# Altium integrated library Linear Technology Power Management LED Driver ICs.IntLib: 490 symbols (part 5 of 48)
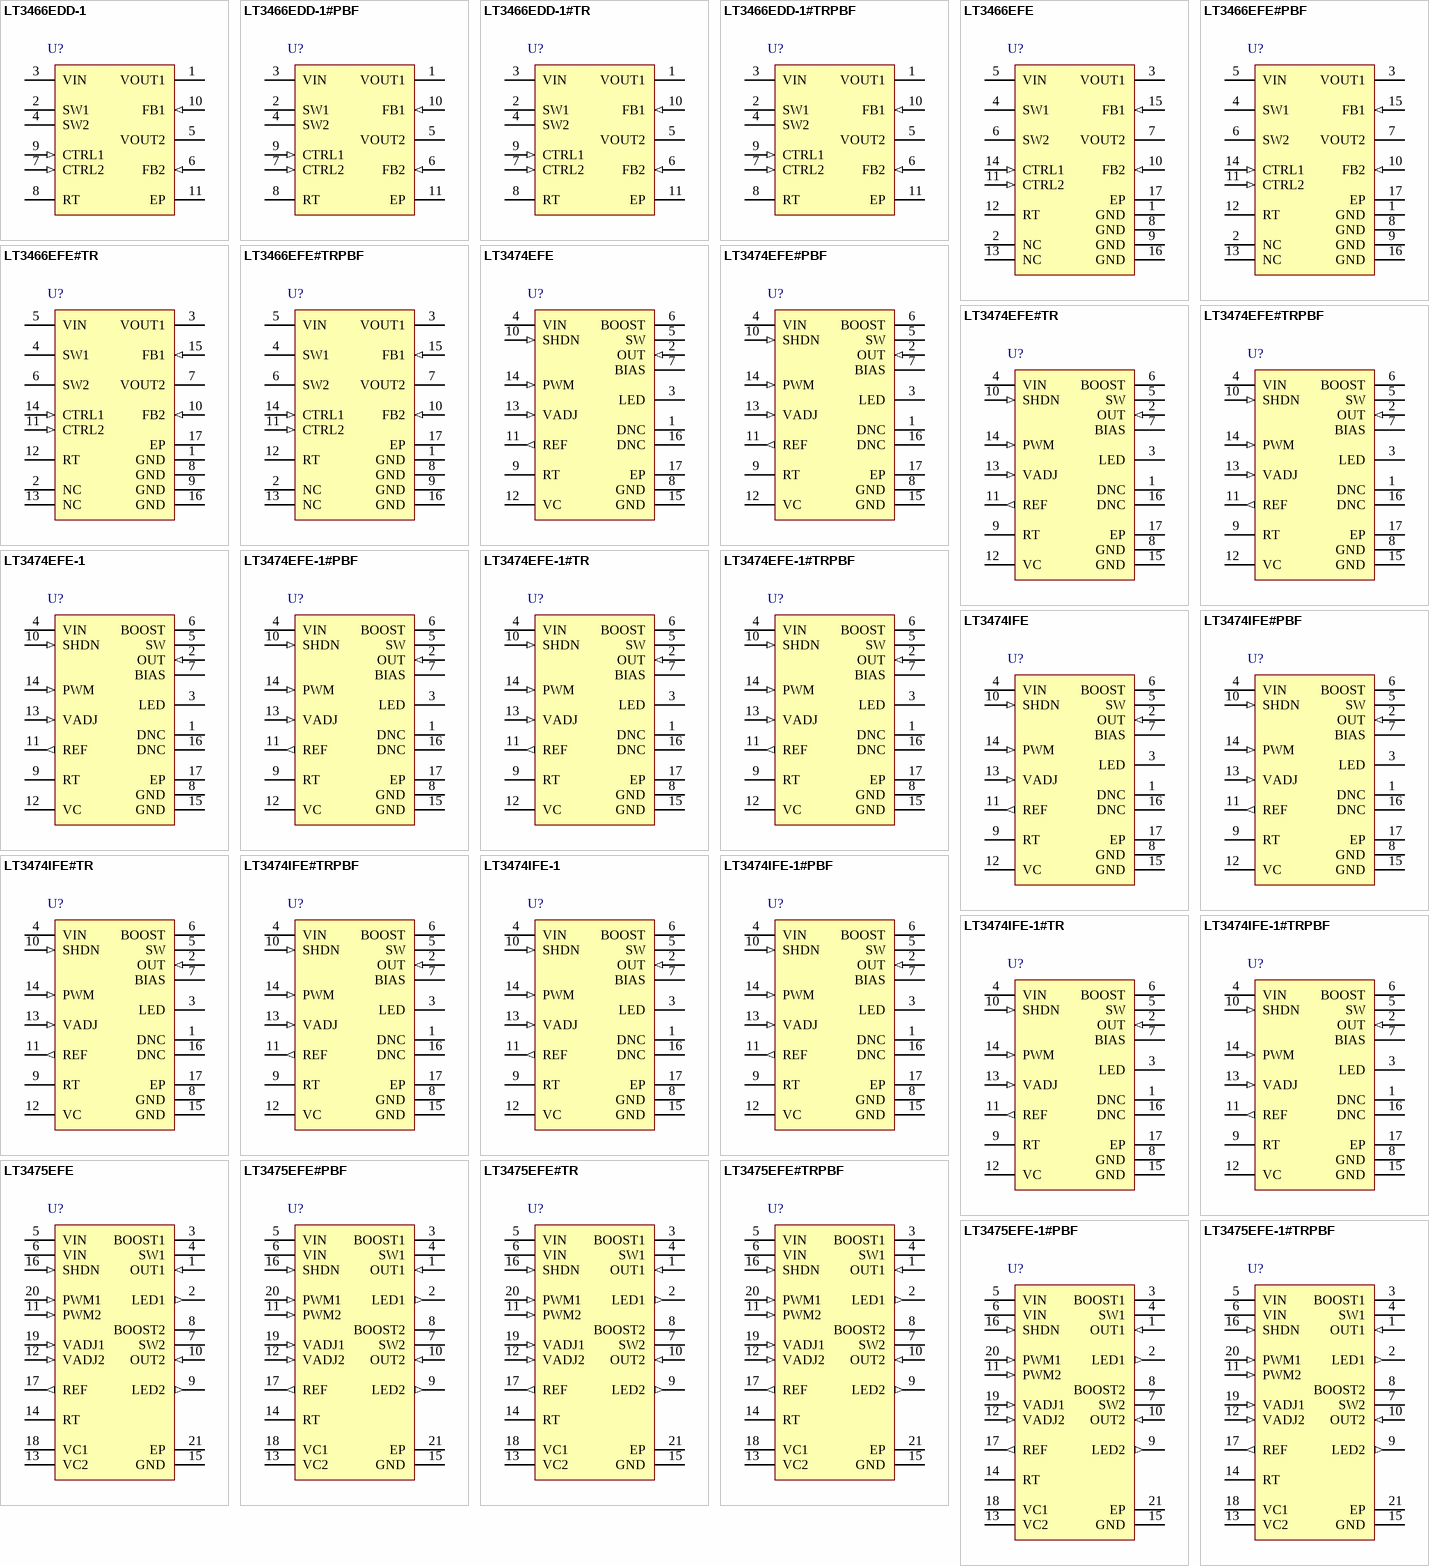
[diagram p24: symbols LT3466EDD-1 to LT3475EFE-1#TRPBF]

## LT3475EFE-1#PBF
designator U?
Dual Step-Down 1.5 A LED Driver, 4 to 36 V Vin, 25 V Vout MAX, 20-pin SOP (FE-20-EPV-CB), -40 to 85 degC, Pb-Free; Manufacturer: Linear Technology; PartNumber: LT3475EFE-1#PBF; Topology: Buck, LED Driver; Vin Min(V): 4; DatasheetVersion: Rev. B; PackageVersion: Rev. I, 05/2011; PackageReference: FE-20; PackageDescription: 20-Pin Plastic TSSOP, Body 6.5 x 4.4 mm, Pitch 0.65 mm; Supplier 1: Digi-Key; Supplier Part Number 1: LT3475EFE-1#PBF-ND; Supplier 2: Farnell; Supplier Part Number 2: 2294842; Supplier 3: Newark; Supplier Part Number 3: 57M8294; RoHS: TRUE; Mounting Technology: Surface Mount; ComponentLink1Description: Manufacturer URL; ComponentLink1URL: http://www.linear.com/; ComponentLink2Description: Datasheet; ComponentLink2URL: http://cds.linear.com/docs/en/datasheet/3475fb.pdf; ComponentLink3Description: Package Specification; ComponentLink3URL: http://cds.linear.com/docs/en/packaging/05081663__J_FE20(CB).pdf
footprint LT-FE-20-EPV-CB_N (SOP, 20-Leads, Body 6.6x4.5mm, Pitch 0.65mm, Thermal Pad 3.86x2.74mm, IPC Medium Density)
footprint LT-FE-20-EPV-CB_L (SOP, 20-Leads, Body 6.6x4.5mm, Pitch 0.65mm, Thermal Pad 3.86x2.74mm, IPC High Density)
footprint LT-FE-20-EPV-CB_M (SOP, 20-Leads, Body 6.6x4.5mm, Pitch 0.65mm, Thermal Pad 3.86x2.74mm, IPC Low Density)
pins: 1 OUT1 (in) "The OUT pin is the input to the current sense resistor. Connect this pin to the inductor and the output capacitor.", 2 LED1 (out) "The LED pin is the output of the current sense resistor. Connect the anode of the LED here.", 3 BOOST1 "The BOOST pin is used to provide a drive voltage, higher than the input voltage, to the internal bipolar NPN power switch.", 4 SW1 "The SW pin is the output of the internal power switch. Connect this pin to the inductor, switching diode and boost capacitor", 5 VIN (power) "The VIN pins supply current to the internal circuitry and to the internal power switches and must be locally bypassed.", 6 VIN (power) "The VIN pins supply current to the internal circuitry and to the internal power switches and must be locally bypassed.", 7 SW2 "The SW pin is the output of the internal power switch. Connect this pin to the inductor, switching diode and boost capacitor", 8 BOOST2 "The BOOST pin is used to provide a drive voltage, higher than the input voltage, to the internal bipolar NPN power switch.", 9 LED2 (out) "The LED pin is the output of the current sense resistor. Connect the anode of the LED here.", 10 OUT2 (in) "The OUT pin is the input to the current sense resistor. Connect this pin to the inductor and the output capacitor.", 11 PWM2 (in) "The PWM pin controls the connection of the VC pin to the internal circuitry. When the PWM pin is low, the VC pin is disconnected from the internal circuitry and draws minimal current. If the PWM feature is unused, leave this (See Datasheet)", 12 VADJ2 (in) "The VADJ pin is the input to the internal voltage-to-current amplifier. Connect the VADJ pin to the REF pin for a 1.5A output current.", 13 VC2 "The VC pin is the output of the internal error amp. The voltage on this pin controls the peak switch current. Use this pin to compensate the control loop.", 14 RT "The RT pin is used to set the internal oscillator frequency. Tie a 24.3k resistor from RT to GND for a 600kHz switching frequency.", 15 GND (power) "Ground. Tie the GND pin and the exposed pad directly to the ground plane.", 16 SHDN (in) "The SHDN pin is used to shut down the switching regulator and the internal bias circuits. The 2.6V switching threshold can function as an accurate undervoltage lockout. Pull below 0.3V to shut down the LT3475/LT3475-1. Pull (See Datasheet)", 17 REF (out) "The REF pin is the buffered output of the internal reference. Either tie the REF pin to the VADJ pin for a 1.5A output current, or use a resistor divider to generate a lower voltage at the VADJ pin. Leave this pin (See Datasheet)", 18 VC1 "The VC pin is the output of the internal error amp. The voltage on this pin controls the peak switch current. Use this pin to compensate the control loop.", 19 VADJ1 (in) "The VADJ pin is the input to the internal voltage-to-current amplifier. Connect the VADJ pin to the REF pin for a 1.5A output current.", 20 PWM1 (in) "The PWM pin controls the connection of the VC pin to the internal circuitry. When the PWM pin is low, the VC pin is disconnected from the internal circuitry and draws minimal current. If the PWM feature is unused, leave this (See Datasheet)", 21 EP (power) "Ground. Tie the GND pin and the exposed pad directly to the ground plane. The exposed pad metal of the package provides both electrical contact to ground and good thermal contact to the printed circuit board. The exposed pad (See Datasheet)"

## LT3475EFE-1#TRPBF
designator U?
Dual Step-Down 1.5 A LED Driver, 4 to 36 V Vin, 25 V Vout MAX, 20-pin SOP (FE-20-EPV-CB), -40 to 85 degC, Pb-Free, Tape and Reel; Manufacturer: Linear Technology; PartNumber: LT3475EFE-1#TRPBF; Topology: Buck, LED Driver; Vin Min(V): 4; DatasheetVersion: Rev. B; PackageVersion: Rev. I, 05/2011; PackageReference: FE-20; PackageDescription: 20-Pin Plastic TSSOP, Body 6.5 x 4.4 mm, Pitch 0.65 mm; Supplier 1: Digi-Key; Supplier Part Number 1: LT3475EFE-1#TRPBF-ND; Packing: Tape and Reel; RoHS: TRUE; Mounting Technology: Surface Mount; ComponentLink1Description: Manufacturer URL; ComponentLink1URL: http://www.linear.com/; ComponentLink2Description: Datasheet; ComponentLink2URL: http://cds.linear.com/docs/en/datasheet/3475fb.pdf; ComponentLink3Description: Package Specification; ComponentLink3URL: http://cds.linear.com/docs/en/packaging/05081663__J_FE20(CB).pdf
footprint LT-FE-20-EPV-CB_N (SOP, 20-Leads, Body 6.6x4.5mm, Pitch 0.65mm, Thermal Pad 3.86x2.74mm, IPC Medium Density)
footprint LT-FE-20-EPV-CB_L (SOP, 20-Leads, Body 6.6x4.5mm, Pitch 0.65mm, Thermal Pad 3.86x2.74mm, IPC High Density)
footprint LT-FE-20-EPV-CB_M (SOP, 20-Leads, Body 6.6x4.5mm, Pitch 0.65mm, Thermal Pad 3.86x2.74mm, IPC Low Density)
pins: 1 OUT1 (in) "The OUT pin is the input to the current sense resistor. Connect this pin to the inductor and the output capacitor.", 2 LED1 (out) "The LED pin is the output of the current sense resistor. Connect the anode of the LED here.", 3 BOOST1 "The BOOST pin is used to provide a drive voltage, higher than the input voltage, to the internal bipolar NPN power switch.", 4 SW1 "The SW pin is the output of the internal power switch. Connect this pin to the inductor, switching diode and boost capacitor", 5 VIN (power) "The VIN pins supply current to the internal circuitry and to the internal power switches and must be locally bypassed.", 6 VIN (power) "The VIN pins supply current to the internal circuitry and to the internal power switches and must be locally bypassed.", 7 SW2 "The SW pin is the output of the internal power switch. Connect this pin to the inductor, switching diode and boost capacitor", 8 BOOST2 "The BOOST pin is used to provide a drive voltage, higher than the input voltage, to the internal bipolar NPN power switch.", 9 LED2 (out) "The LED pin is the output of the current sense resistor. Connect the anode of the LED here.", 10 OUT2 (in) "The OUT pin is the input to the current sense resistor. Connect this pin to the inductor and the output capacitor.", 11 PWM2 (in) "The PWM pin controls the connection of the VC pin to the internal circuitry. When the PWM pin is low, the VC pin is disconnected from the internal circuitry and draws minimal current. If the PWM feature is unused, leave this (See Datasheet)", 12 VADJ2 (in) "The VADJ pin is the input to the internal voltage-to-current amplifier. Connect the VADJ pin to the REF pin for a 1.5A output current.", 13 VC2 "The VC pin is the output of the internal error amp. The voltage on this pin controls the peak switch current. Use this pin to compensate the control loop.", 14 RT "The RT pin is used to set the internal oscillator frequency. Tie a 24.3k resistor from RT to GND for a 600kHz switching frequency.", 15 GND (power) "Ground. Tie the GND pin and the exposed pad directly to the ground plane.", 16 SHDN (in) "The SHDN pin is used to shut down the switching regulator and the internal bias circuits. The 2.6V switching threshold can function as an accurate undervoltage lockout. Pull below 0.3V to shut down the LT3475/LT3475-1. Pull (See Datasheet)", 17 REF (out) "The REF pin is the buffered output of the internal reference. Either tie the REF pin to the VADJ pin for a 1.5A output current, or use a resistor divider to generate a lower voltage at the VADJ pin. Leave this pin (See Datasheet)", 18 VC1 "The VC pin is the output of the internal error amp. The voltage on this pin controls the peak switch current. Use this pin to compensate the control loop.", 19 VADJ1 (in) "The VADJ pin is the input to the internal voltage-to-current amplifier. Connect the VADJ pin to the REF pin for a 1.5A output current.", 20 PWM1 (in) "The PWM pin controls the connection of the VC pin to the internal circuitry. When the PWM pin is low, the VC pin is disconnected from the internal circuitry and draws minimal current. If the PWM feature is unused, leave this (See Datasheet)", 21 EP (power) "Ground. Tie the GND pin and the exposed pad directly to the ground plane. The exposed pad metal of the package provides both electrical contact to ground and good thermal contact to the printed circuit board. The exposed pad (See Datasheet)"

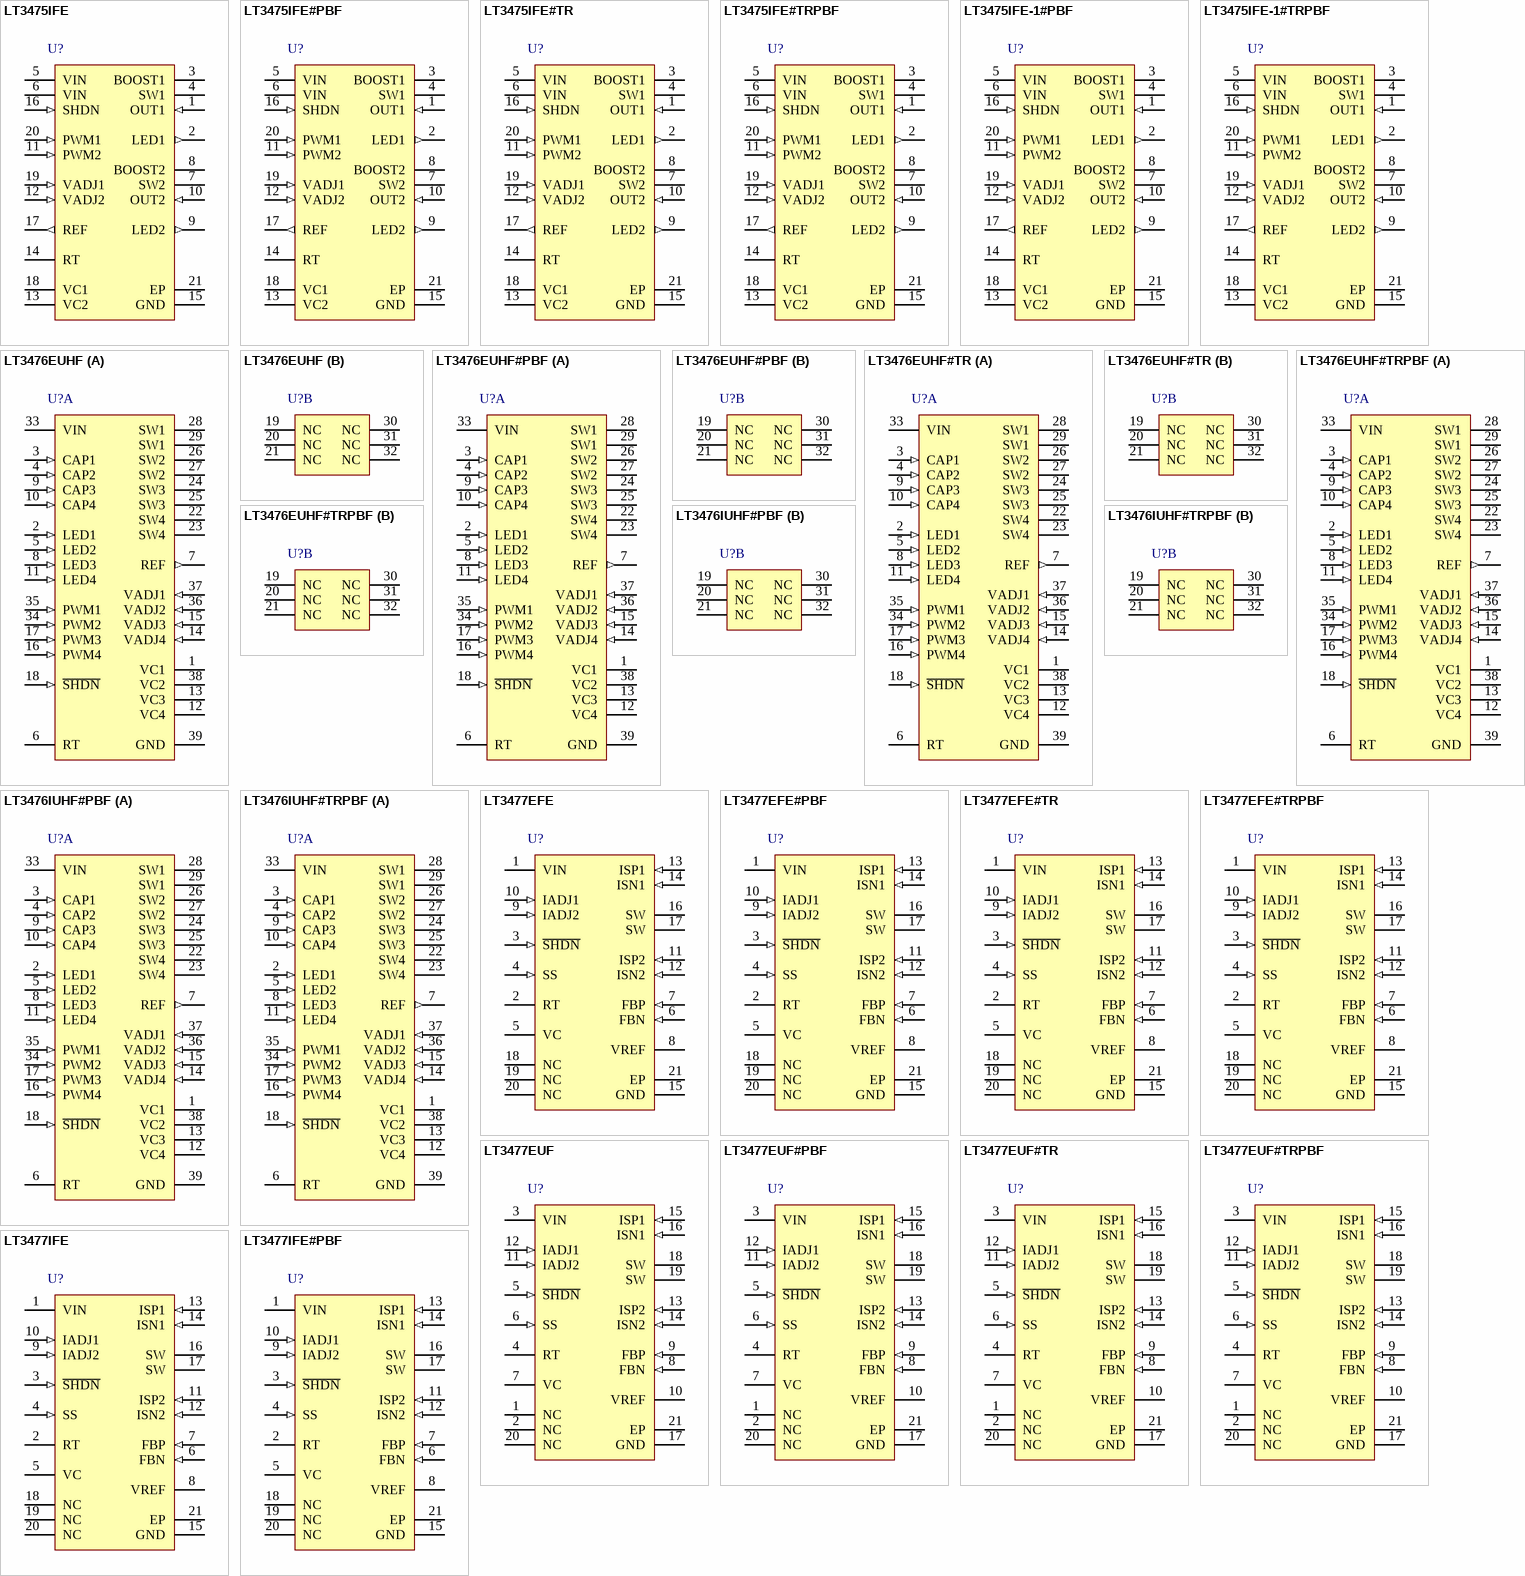
[diagram p2: symbols LT3475IFE to LT3477IFE#PBF]

## LT3475IFE
designator U?
Dual Step-Down 1.5 A LED Driver, 4 to 36 V Vin, 15 V Vout MAX, 20-pin SOP (FE-20-EPV-CB), -40 to 125 degC; Manufacturer: Linear Technology; PartNumber: LT3475IFE; Topology: Buck, LED Driver; Vin Min(V): 4; DatasheetVersion: Rev. B; PackageVersion: Rev. I, 05/2011; PackageReference: FE-20; PackageDescription: 20-Pin Plastic TSSOP, Body 6.5 x 4.4 mm, Pitch 0.65 mm; RoHS: FALSE; Mounting Technology: Surface Mount; ComponentLink1Description: Manufacturer URL; ComponentLink1URL: http://www.linear.com/; ComponentLink2Description: Datasheet; ComponentLink2URL: http://cds.linear.com/docs/en/datasheet/3475fb.pdf; ComponentLink3Description: Package Specification; ComponentLink3URL: http://cds.linear.com/docs/en/packaging/05081663__J_FE20(CB).pdf
footprint LT-FE-20-EPV-CB_N (SOP, 20-Leads, Body 6.6x4.5mm, Pitch 0.65mm, Thermal Pad 3.86x2.74mm, IPC Medium Density)
footprint LT-FE-20-EPV-CB_L (SOP, 20-Leads, Body 6.6x4.5mm, Pitch 0.65mm, Thermal Pad 3.86x2.74mm, IPC High Density)
footprint LT-FE-20-EPV-CB_M (SOP, 20-Leads, Body 6.6x4.5mm, Pitch 0.65mm, Thermal Pad 3.86x2.74mm, IPC Low Density)
pins: 1 OUT1 (in) "The OUT pin is the input to the current sense resistor. Connect this pin to the inductor and the output capacitor.", 2 LED1 (out) "The LED pin is the output of the current sense resistor. Connect the anode of the LED here.", 3 BOOST1 "The BOOST pin is used to provide a drive voltage, higher than the input voltage, to the internal bipolar NPN power switch.", 4 SW1 "The SW pin is the output of the internal power switch. Connect this pin to the inductor, switching diode and boost capacitor", 5 VIN (power) "The VIN pins supply current to the internal circuitry and to the internal power switches and must be locally bypassed.", 6 VIN (power) "The VIN pins supply current to the internal circuitry and to the internal power switches and must be locally bypassed.", 7 SW2 "The SW pin is the output of the internal power switch. Connect this pin to the inductor, switching diode and boost capacitor", 8 BOOST2 "The BOOST pin is used to provide a drive voltage, higher than the input voltage, to the internal bipolar NPN power switch.", 9 LED2 (out) "The LED pin is the output of the current sense resistor. Connect the anode of the LED here.", 10 OUT2 (in) "The OUT pin is the input to the current sense resistor. Connect this pin to the inductor and the output capacitor.", 11 PWM2 (in) "The PWM pin controls the connection of the VC pin to the internal circuitry. When the PWM pin is low, the VC pin is disconnected from the internal circuitry and draws minimal current. If the PWM feature is unused, leave this (See Datasheet)", 12 VADJ2 (in) "The VADJ pin is the input to the internal voltage-to-current amplifier. Connect the VADJ pin to the REF pin for a 1.5A output current.", 13 VC2 "The VC pin is the output of the internal error amp. The voltage on this pin controls the peak switch current. Use this pin to compensate the control loop.", 14 RT "The RT pin is used to set the internal oscillator frequency. Tie a 24.3k resistor from RT to GND for a 600kHz switching frequency.", 15 GND (power) "Ground. Tie the GND pin and the exposed pad directly to the ground plane.", 16 SHDN (in) "The SHDN pin is used to shut down the switching regulator and the internal bias circuits. The 2.6V switching threshold can function as an accurate undervoltage lockout. Pull below 0.3V to shut down the LT3475/LT3475-1. Pull (See Datasheet)", 17 REF (out) "The REF pin is the buffered output of the internal reference. Either tie the REF pin to the VADJ pin for a 1.5A output current, or use a resistor divider to generate a lower voltage at the VADJ pin. Leave this pin (See Datasheet)", 18 VC1 "The VC pin is the output of the internal error amp. The voltage on this pin controls the peak switch current. Use this pin to compensate the control loop.", 19 VADJ1 (in) "The VADJ pin is the input to the internal voltage-to-current amplifier. Connect the VADJ pin to the REF pin for a 1.5A output current.", 20 PWM1 (in) "The PWM pin controls the connection of the VC pin to the internal circuitry. When the PWM pin is low, the VC pin is disconnected from the internal circuitry and draws minimal current. If the PWM feature is unused, leave this (See Datasheet)", 21 EP (power) "Ground. Tie the GND pin and the exposed pad directly to the ground plane. The exposed pad metal of the package provides both electrical contact to ground and good thermal contact to the printed circuit board. The exposed pad (See Datasheet)"

## LT3475IFE#PBF
designator U?
Dual Step-Down 1.5 A LED Driver, 4 to 36 V Vin, 15 V Vout MAX, 20-pin SOP (FE-20-EPV-CB), -40 to 125 degC, Pb-Free; Manufacturer: Linear Technology; PartNumber: LT3475IFE#PBF; Topology: Buck, LED Driver; Vin Min(V): 4; DatasheetVersion: Rev. B; PackageVersion: Rev. I, 05/2011; PackageReference: FE-20; PackageDescription: 20-Pin Plastic TSSOP, Body 6.5 x 4.4 mm, Pitch 0.65 mm; Supplier 1: Digi-Key; Supplier Part Number 1: LT3475IFE#PBF-ND; RoHS: TRUE; Mounting Technology: Surface Mount; ComponentLink1Description: Manufacturer URL; ComponentLink1URL: http://www.linear.com/; ComponentLink2Description: Datasheet; ComponentLink2URL: http://cds.linear.com/docs/en/datasheet/3475fb.pdf; ComponentLink3Description: Package Specification; ComponentLink3URL: http://cds.linear.com/docs/en/packaging/05081663__J_FE20(CB).pdf
footprint LT-FE-20-EPV-CB_N (SOP, 20-Leads, Body 6.6x4.5mm, Pitch 0.65mm, Thermal Pad 3.86x2.74mm, IPC Medium Density)
footprint LT-FE-20-EPV-CB_L (SOP, 20-Leads, Body 6.6x4.5mm, Pitch 0.65mm, Thermal Pad 3.86x2.74mm, IPC High Density)
footprint LT-FE-20-EPV-CB_M (SOP, 20-Leads, Body 6.6x4.5mm, Pitch 0.65mm, Thermal Pad 3.86x2.74mm, IPC Low Density)
pins: 1 OUT1 (in) "The OUT pin is the input to the current sense resistor. Connect this pin to the inductor and the output capacitor.", 2 LED1 (out) "The LED pin is the output of the current sense resistor. Connect the anode of the LED here.", 3 BOOST1 "The BOOST pin is used to provide a drive voltage, higher than the input voltage, to the internal bipolar NPN power switch.", 4 SW1 "The SW pin is the output of the internal power switch. Connect this pin to the inductor, switching diode and boost capacitor", 5 VIN (power) "The VIN pins supply current to the internal circuitry and to the internal power switches and must be locally bypassed.", 6 VIN (power) "The VIN pins supply current to the internal circuitry and to the internal power switches and must be locally bypassed.", 7 SW2 "The SW pin is the output of the internal power switch. Connect this pin to the inductor, switching diode and boost capacitor", 8 BOOST2 "The BOOST pin is used to provide a drive voltage, higher than the input voltage, to the internal bipolar NPN power switch.", 9 LED2 (out) "The LED pin is the output of the current sense resistor. Connect the anode of the LED here.", 10 OUT2 (in) "The OUT pin is the input to the current sense resistor. Connect this pin to the inductor and the output capacitor.", 11 PWM2 (in) "The PWM pin controls the connection of the VC pin to the internal circuitry. When the PWM pin is low, the VC pin is disconnected from the internal circuitry and draws minimal current. If the PWM feature is unused, leave this (See Datasheet)", 12 VADJ2 (in) "The VADJ pin is the input to the internal voltage-to-current amplifier. Connect the VADJ pin to the REF pin for a 1.5A output current.", 13 VC2 "The VC pin is the output of the internal error amp. The voltage on this pin controls the peak switch current. Use this pin to compensate the control loop.", 14 RT "The RT pin is used to set the internal oscillator frequency. Tie a 24.3k resistor from RT to GND for a 600kHz switching frequency.", 15 GND (power) "Ground. Tie the GND pin and the exposed pad directly to the ground plane.", 16 SHDN (in) "The SHDN pin is used to shut down the switching regulator and the internal bias circuits. The 2.6V switching threshold can function as an accurate undervoltage lockout. Pull below 0.3V to shut down the LT3475/LT3475-1. Pull (See Datasheet)", 17 REF (out) "The REF pin is the buffered output of the internal reference. Either tie the REF pin to the VADJ pin for a 1.5A output current, or use a resistor divider to generate a lower voltage at the VADJ pin. Leave this pin (See Datasheet)", 18 VC1 "The VC pin is the output of the internal error amp. The voltage on this pin controls the peak switch current. Use this pin to compensate the control loop.", 19 VADJ1 (in) "The VADJ pin is the input to the internal voltage-to-current amplifier. Connect the VADJ pin to the REF pin for a 1.5A output current.", 20 PWM1 (in) "The PWM pin controls the connection of the VC pin to the internal circuitry. When the PWM pin is low, the VC pin is disconnected from the internal circuitry and draws minimal current. If the PWM feature is unused, leave this (See Datasheet)", 21 EP (power) "Ground. Tie the GND pin and the exposed pad directly to the ground plane. The exposed pad metal of the package provides both electrical contact to ground and good thermal contact to the printed circuit board. The exposed pad (See Datasheet)"

## LT3475IFE#TR
designator U?
Dual Step-Down 1.5 A LED Driver, 4 to 36 V Vin, 15 V Vout MAX, 20-pin SOP (FE-20-EPV-CB), -40 to 125 degC, Tape and Reel; Manufacturer: Linear Technology; PartNumber: LT3475IFE#TR; Topology: Buck, LED Driver; Vin Min(V): 4; DatasheetVersion: Rev. B; PackageVersion: Rev. I, 05/2011; PackageReference: FE-20; PackageDescription: 20-Pin Plastic TSSOP, Body 6.5 x 4.4 mm, Pitch 0.65 mm; Packing: Tape and Reel; RoHS: FALSE; Mounting Technology: Surface Mount; ComponentLink1Description: Manufacturer URL; ComponentLink1URL: http://www.linear.com/; ComponentLink2Description: Datasheet; ComponentLink2URL: http://cds.linear.com/docs/en/datasheet/3475fb.pdf; ComponentLink3Description: Package Specification; ComponentLink3URL: http://cds.linear.com/docs/en/packaging/05081663__J_FE20(CB).pdf
footprint LT-FE-20-EPV-CB_N (SOP, 20-Leads, Body 6.6x4.5mm, Pitch 0.65mm, Thermal Pad 3.86x2.74mm, IPC Medium Density)
footprint LT-FE-20-EPV-CB_L (SOP, 20-Leads, Body 6.6x4.5mm, Pitch 0.65mm, Thermal Pad 3.86x2.74mm, IPC High Density)
footprint LT-FE-20-EPV-CB_M (SOP, 20-Leads, Body 6.6x4.5mm, Pitch 0.65mm, Thermal Pad 3.86x2.74mm, IPC Low Density)
pins: 1 OUT1 (in) "The OUT pin is the input to the current sense resistor. Connect this pin to the inductor and the output capacitor.", 2 LED1 (out) "The LED pin is the output of the current sense resistor. Connect the anode of the LED here.", 3 BOOST1 "The BOOST pin is used to provide a drive voltage, higher than the input voltage, to the internal bipolar NPN power switch.", 4 SW1 "The SW pin is the output of the internal power switch. Connect this pin to the inductor, switching diode and boost capacitor", 5 VIN (power) "The VIN pins supply current to the internal circuitry and to the internal power switches and must be locally bypassed.", 6 VIN (power) "The VIN pins supply current to the internal circuitry and to the internal power switches and must be locally bypassed.", 7 SW2 "The SW pin is the output of the internal power switch. Connect this pin to the inductor, switching diode and boost capacitor", 8 BOOST2 "The BOOST pin is used to provide a drive voltage, higher than the input voltage, to the internal bipolar NPN power switch.", 9 LED2 (out) "The LED pin is the output of the current sense resistor. Connect the anode of the LED here.", 10 OUT2 (in) "The OUT pin is the input to the current sense resistor. Connect this pin to the inductor and the output capacitor.", 11 PWM2 (in) "The PWM pin controls the connection of the VC pin to the internal circuitry. When the PWM pin is low, the VC pin is disconnected from the internal circuitry and draws minimal current. If the PWM feature is unused, leave this (See Datasheet)", 12 VADJ2 (in) "The VADJ pin is the input to the internal voltage-to-current amplifier. Connect the VADJ pin to the REF pin for a 1.5A output current.", 13 VC2 "The VC pin is the output of the internal error amp. The voltage on this pin controls the peak switch current. Use this pin to compensate the control loop.", 14 RT "The RT pin is used to set the internal oscillator frequency. Tie a 24.3k resistor from RT to GND for a 600kHz switching frequency.", 15 GND (power) "Ground. Tie the GND pin and the exposed pad directly to the ground plane.", 16 SHDN (in) "The SHDN pin is used to shut down the switching regulator and the internal bias circuits. The 2.6V switching threshold can function as an accurate undervoltage lockout. Pull below 0.3V to shut down the LT3475/LT3475-1. Pull (See Datasheet)", 17 REF (out) "The REF pin is the buffered output of the internal reference. Either tie the REF pin to the VADJ pin for a 1.5A output current, or use a resistor divider to generate a lower voltage at the VADJ pin. Leave this pin (See Datasheet)", 18 VC1 "The VC pin is the output of the internal error amp. The voltage on this pin controls the peak switch current. Use this pin to compensate the control loop.", 19 VADJ1 (in) "The VADJ pin is the input to the internal voltage-to-current amplifier. Connect the VADJ pin to the REF pin for a 1.5A output current.", 20 PWM1 (in) "The PWM pin controls the connection of the VC pin to the internal circuitry. When the PWM pin is low, the VC pin is disconnected from the internal circuitry and draws minimal current. If the PWM feature is unused, leave this (See Datasheet)", 21 EP (power) "Ground. Tie the GND pin and the exposed pad directly to the ground plane. The exposed pad metal of the package provides both electrical contact to ground and good thermal contact to the printed circuit board. The exposed pad (See Datasheet)"

## LT3475IFE#TRPBF
designator U?
Dual Step-Down 1.5 A LED Driver, 4 to 36 V Vin, 15 V Vout MAX, 20-pin SOP (FE-20-EPV-CB), -40 to 125 degC, Pb-Free, Tape and Reel; Manufacturer: Linear Technology; PartNumber: LT3475IFE#TRPBF; Topology: Buck, LED Driver; Vin Min(V): 4; DatasheetVersion: Rev. B; PackageVersion: Rev. I, 05/2011; PackageReference: FE-20; PackageDescription: 20-Pin Plastic TSSOP, Body 6.5 x 4.4 mm, Pitch 0.65 mm; Supplier 1: Digi-Key; Supplier Part Number 1: LT3475IFE#TRPBF-ND; Packing: Tape and Reel; RoHS: TRUE; Mounting Technology: Surface Mount; ComponentLink1Description: Manufacturer URL; ComponentLink1URL: http://www.linear.com/; ComponentLink2Description: Datasheet; ComponentLink2URL: http://cds.linear.com/docs/en/datasheet/3475fb.pdf; ComponentLink3Description: Package Specification; ComponentLink3URL: http://cds.linear.com/docs/en/packaging/05081663__J_FE20(CB).pdf
footprint LT-FE-20-EPV-CB_N (SOP, 20-Leads, Body 6.6x4.5mm, Pitch 0.65mm, Thermal Pad 3.86x2.74mm, IPC Medium Density)
footprint LT-FE-20-EPV-CB_L (SOP, 20-Leads, Body 6.6x4.5mm, Pitch 0.65mm, Thermal Pad 3.86x2.74mm, IPC High Density)
footprint LT-FE-20-EPV-CB_M (SOP, 20-Leads, Body 6.6x4.5mm, Pitch 0.65mm, Thermal Pad 3.86x2.74mm, IPC Low Density)
pins: 1 OUT1 (in) "The OUT pin is the input to the current sense resistor. Connect this pin to the inductor and the output capacitor.", 2 LED1 (out) "The LED pin is the output of the current sense resistor. Connect the anode of the LED here.", 3 BOOST1 "The BOOST pin is used to provide a drive voltage, higher than the input voltage, to the internal bipolar NPN power switch.", 4 SW1 "The SW pin is the output of the internal power switch. Connect this pin to the inductor, switching diode and boost capacitor", 5 VIN (power) "The VIN pins supply current to the internal circuitry and to the internal power switches and must be locally bypassed.", 6 VIN (power) "The VIN pins supply current to the internal circuitry and to the internal power switches and must be locally bypassed.", 7 SW2 "The SW pin is the output of the internal power switch. Connect this pin to the inductor, switching diode and boost capacitor", 8 BOOST2 "The BOOST pin is used to provide a drive voltage, higher than the input voltage, to the internal bipolar NPN power switch.", 9 LED2 (out) "The LED pin is the output of the current sense resistor. Connect the anode of the LED here.", 10 OUT2 (in) "The OUT pin is the input to the current sense resistor. Connect this pin to the inductor and the output capacitor.", 11 PWM2 (in) "The PWM pin controls the connection of the VC pin to the internal circuitry. When the PWM pin is low, the VC pin is disconnected from the internal circuitry and draws minimal current. If the PWM feature is unused, leave this (See Datasheet)", 12 VADJ2 (in) "The VADJ pin is the input to the internal voltage-to-current amplifier. Connect the VADJ pin to the REF pin for a 1.5A output current.", 13 VC2 "The VC pin is the output of the internal error amp. The voltage on this pin controls the peak switch current. Use this pin to compensate the control loop.", 14 RT "The RT pin is used to set the internal oscillator frequency. Tie a 24.3k resistor from RT to GND for a 600kHz switching frequency.", 15 GND (power) "Ground. Tie the GND pin and the exposed pad directly to the ground plane.", 16 SHDN (in) "The SHDN pin is used to shut down the switching regulator and the internal bias circuits. The 2.6V switching threshold can function as an accurate undervoltage lockout. Pull below 0.3V to shut down the LT3475/LT3475-1. Pull (See Datasheet)", 17 REF (out) "The REF pin is the buffered output of the internal reference. Either tie the REF pin to the VADJ pin for a 1.5A output current, or use a resistor divider to generate a lower voltage at the VADJ pin. Leave this pin (See Datasheet)", 18 VC1 "The VC pin is the output of the internal error amp. The voltage on this pin controls the peak switch current. Use this pin to compensate the control loop.", 19 VADJ1 (in) "The VADJ pin is the input to the internal voltage-to-current amplifier. Connect the VADJ pin to the REF pin for a 1.5A output current.", 20 PWM1 (in) "The PWM pin controls the connection of the VC pin to the internal circuitry. When the PWM pin is low, the VC pin is disconnected from the internal circuitry and draws minimal current. If the PWM feature is unused, leave this (See Datasheet)", 21 EP (power) "Ground. Tie the GND pin and the exposed pad directly to the ground plane. The exposed pad metal of the package provides both electrical contact to ground and good thermal contact to the printed circuit board. The exposed pad (See Datasheet)"

## LT3475IFE-1#PBF
designator U?
Dual Step-Down 1.5 A LED Driver, 4 to 36 V Vin, 25 V Vout MAX, 20-pin SOP (FE-20-EPV-CB), -40 to 125 degC, Pb-Free; Manufacturer: Linear Technology; PartNumber: LT3475IFE-1#PBF; Topology: Buck, LED Driver; Vin Min(V): 4; DatasheetVersion: Rev. B; PackageVersion: Rev. I, 05/2011; PackageReference: FE-20; PackageDescription: 20-Pin Plastic TSSOP, Body 6.5 x 4.4 mm, Pitch 0.65 mm; Supplier 1: Digi-Key; Supplier Part Number 1: LT3475IFE-1#PBF-ND; Supplier 2: Farnell; Supplier Part Number 2: 2294843; Supplier 3: Newark; Supplier Part Number 3: 57M8300; RoHS: TRUE; Mounting Technology: Surface Mount; ComponentLink1Description: Manufacturer URL; ComponentLink1URL: http://www.linear.com/; ComponentLink2Description: Datasheet; ComponentLink2URL: http://cds.linear.com/docs/en/datasheet/3475fb.pdf; ComponentLink3Description: Package Specification; ComponentLink3URL: http://cds.linear.com/docs/en/packaging/05081663__J_FE20(CB).pdf
footprint LT-FE-20-EPV-CB_N (SOP, 20-Leads, Body 6.6x4.5mm, Pitch 0.65mm, Thermal Pad 3.86x2.74mm, IPC Medium Density)
footprint LT-FE-20-EPV-CB_L (SOP, 20-Leads, Body 6.6x4.5mm, Pitch 0.65mm, Thermal Pad 3.86x2.74mm, IPC High Density)
footprint LT-FE-20-EPV-CB_M (SOP, 20-Leads, Body 6.6x4.5mm, Pitch 0.65mm, Thermal Pad 3.86x2.74mm, IPC Low Density)
pins: 1 OUT1 (in) "The OUT pin is the input to the current sense resistor. Connect this pin to the inductor and the output capacitor.", 2 LED1 (out) "The LED pin is the output of the current sense resistor. Connect the anode of the LED here.", 3 BOOST1 "The BOOST pin is used to provide a drive voltage, higher than the input voltage, to the internal bipolar NPN power switch.", 4 SW1 "The SW pin is the output of the internal power switch. Connect this pin to the inductor, switching diode and boost capacitor", 5 VIN (power) "The VIN pins supply current to the internal circuitry and to the internal power switches and must be locally bypassed.", 6 VIN (power) "The VIN pins supply current to the internal circuitry and to the internal power switches and must be locally bypassed.", 7 SW2 "The SW pin is the output of the internal power switch. Connect this pin to the inductor, switching diode and boost capacitor", 8 BOOST2 "The BOOST pin is used to provide a drive voltage, higher than the input voltage, to the internal bipolar NPN power switch.", 9 LED2 (out) "The LED pin is the output of the current sense resistor. Connect the anode of the LED here.", 10 OUT2 (in) "The OUT pin is the input to the current sense resistor. Connect this pin to the inductor and the output capacitor.", 11 PWM2 (in) "The PWM pin controls the connection of the VC pin to the internal circuitry. When the PWM pin is low, the VC pin is disconnected from the internal circuitry and draws minimal current. If the PWM feature is unused, leave this (See Datasheet)", 12 VADJ2 (in) "The VADJ pin is the input to the internal voltage-to-current amplifier. Connect the VADJ pin to the REF pin for a 1.5A output current.", 13 VC2 "The VC pin is the output of the internal error amp. The voltage on this pin controls the peak switch current. Use this pin to compensate the control loop.", 14 RT "The RT pin is used to set the internal oscillator frequency. Tie a 24.3k resistor from RT to GND for a 600kHz switching frequency.", 15 GND (power) "Ground. Tie the GND pin and the exposed pad directly to the ground plane.", 16 SHDN (in) "The SHDN pin is used to shut down the switching regulator and the internal bias circuits. The 2.6V switching threshold can function as an accurate undervoltage lockout. Pull below 0.3V to shut down the LT3475/LT3475-1. Pull (See Datasheet)", 17 REF (out) "The REF pin is the buffered output of the internal reference. Either tie the REF pin to the VADJ pin for a 1.5A output current, or use a resistor divider to generate a lower voltage at the VADJ pin. Leave this pin (See Datasheet)", 18 VC1 "The VC pin is the output of the internal error amp. The voltage on this pin controls the peak switch current. Use this pin to compensate the control loop.", 19 VADJ1 (in) "The VADJ pin is the input to the internal voltage-to-current amplifier. Connect the VADJ pin to the REF pin for a 1.5A output current.", 20 PWM1 (in) "The PWM pin controls the connection of the VC pin to the internal circuitry. When the PWM pin is low, the VC pin is disconnected from the internal circuitry and draws minimal current. If the PWM feature is unused, leave this (See Datasheet)", 21 EP (power) "Ground. Tie the GND pin and the exposed pad directly to the ground plane. The exposed pad metal of the package provides both electrical contact to ground and good thermal contact to the printed circuit board. The exposed pad (See Datasheet)"

## LT3475IFE-1#TRPBF
designator U?
Dual Step-Down 1.5 A LED Driver, 4 to 36 V Vin, 25 V Vout MAX, 20-pin SOP (FE-20-EPV-CB), -40 to 125 degC, Pb-Free, Tape and Reel; Manufacturer: Linear Technology; PartNumber: LT3475IFE-1#TRPBF; Topology: Buck, LED Driver; Vin Min(V): 4; DatasheetVersion: Rev. B; PackageVersion: Rev. I, 05/2011; PackageReference: FE-20; PackageDescription: 20-Pin Plastic TSSOP, Body 6.5 x 4.4 mm, Pitch 0.65 mm; Supplier 1: Digi-Key; Supplier Part Number 1: LT3475IFE-1#TRPBF-ND; Packing: Tape and Reel; RoHS: TRUE; Mounting Technology: Surface Mount; ComponentLink1Description: Manufacturer URL; ComponentLink1URL: http://www.linear.com/; ComponentLink2Description: Datasheet; ComponentLink2URL: http://cds.linear.com/docs/en/datasheet/3475fb.pdf; ComponentLink3Description: Package Specification; ComponentLink3URL: http://cds.linear.com/docs/en/packaging/05081663__J_FE20(CB).pdf
footprint LT-FE-20-EPV-CB_N (SOP, 20-Leads, Body 6.6x4.5mm, Pitch 0.65mm, Thermal Pad 3.86x2.74mm, IPC Medium Density)
footprint LT-FE-20-EPV-CB_L (SOP, 20-Leads, Body 6.6x4.5mm, Pitch 0.65mm, Thermal Pad 3.86x2.74mm, IPC High Density)
footprint LT-FE-20-EPV-CB_M (SOP, 20-Leads, Body 6.6x4.5mm, Pitch 0.65mm, Thermal Pad 3.86x2.74mm, IPC Low Density)
pins: 1 OUT1 (in) "The OUT pin is the input to the current sense resistor. Connect this pin to the inductor and the output capacitor.", 2 LED1 (out) "The LED pin is the output of the current sense resistor. Connect the anode of the LED here.", 3 BOOST1 "The BOOST pin is used to provide a drive voltage, higher than the input voltage, to the internal bipolar NPN power switch.", 4 SW1 "The SW pin is the output of the internal power switch. Connect this pin to the inductor, switching diode and boost capacitor", 5 VIN (power) "The VIN pins supply current to the internal circuitry and to the internal power switches and must be locally bypassed.", 6 VIN (power) "The VIN pins supply current to the internal circuitry and to the internal power switches and must be locally bypassed.", 7 SW2 "The SW pin is the output of the internal power switch. Connect this pin to the inductor, switching diode and boost capacitor", 8 BOOST2 "The BOOST pin is used to provide a drive voltage, higher than the input voltage, to the internal bipolar NPN power switch.", 9 LED2 (out) "The LED pin is the output of the current sense resistor. Connect the anode of the LED here.", 10 OUT2 (in) "The OUT pin is the input to the current sense resistor. Connect this pin to the inductor and the output capacitor.", 11 PWM2 (in) "The PWM pin controls the connection of the VC pin to the internal circuitry. When the PWM pin is low, the VC pin is disconnected from the internal circuitry and draws minimal current. If the PWM feature is unused, leave this (See Datasheet)", 12 VADJ2 (in) "The VADJ pin is the input to the internal voltage-to-current amplifier. Connect the VADJ pin to the REF pin for a 1.5A output current.", 13 VC2 "The VC pin is the output of the internal error amp. The voltage on this pin controls the peak switch current. Use this pin to compensate the control loop.", 14 RT "The RT pin is used to set the internal oscillator frequency. Tie a 24.3k resistor from RT to GND for a 600kHz switching frequency.", 15 GND (power) "Ground. Tie the GND pin and the exposed pad directly to the ground plane.", 16 SHDN (in) "The SHDN pin is used to shut down the switching regulator and the internal bias circuits. The 2.6V switching threshold can function as an accurate undervoltage lockout. Pull below 0.3V to shut down the LT3475/LT3475-1. Pull (See Datasheet)", 17 REF (out) "The REF pin is the buffered output of the internal reference. Either tie the REF pin to the VADJ pin for a 1.5A output current, or use a resistor divider to generate a lower voltage at the VADJ pin. Leave this pin (See Datasheet)", 18 VC1 "The VC pin is the output of the internal error amp. The voltage on this pin controls the peak switch current. Use this pin to compensate the control loop.", 19 VADJ1 (in) "The VADJ pin is the input to the internal voltage-to-current amplifier. Connect the VADJ pin to the REF pin for a 1.5A output current.", 20 PWM1 (in) "The PWM pin controls the connection of the VC pin to the internal circuitry. When the PWM pin is low, the VC pin is disconnected from the internal circuitry and draws minimal current. If the PWM feature is unused, leave this (See Datasheet)", 21 EP (power) "Ground. Tie the GND pin and the exposed pad directly to the ground plane. The exposed pad metal of the package provides both electrical contact to ground and good thermal contact to the printed circuit board. The exposed pad (See Datasheet)"

## LT3476EUHF
designator U?
High Current Quad Output LED Driver, 2.8 to 16 V Vin, 36 V Vout MAX, 38-pin QFN (UHF-38), -40 to 85 degC; Manufacturer: Linear Technology; PartNumber: LT3476EUHF; Topology: Boost, Buck-Boost, Buck, LED Driver; Vin Min(V): 2.8; DatasheetVersion: Rev. B; PackageVersion: Rev. C, 06/2010; PackageReference: UHF-38; PackageDescription: 38-Pin Plastic QFN, Body 7 x 5 mm, Pitch 0.5 mm; Supplier 1: Newark; Supplier Part Number 1: 57M8305; RoHS: FALSE; Mounting Technology: Surface Mount; Code_JEDEC: MO-220; ComponentLink1Description: Manufacturer URL; ComponentLink1URL: http://www.linear.com/; ComponentLink2Description: Datasheet; ComponentLink2URL: http://cds.linear.com/docs/en/datasheet/3476fb.pdf; ComponentLink3Description: Package Specification; ComponentLink3URL: http://cds.linear.com/docs/en/packaging/QFN_38_05-08-1701.pdf
footprint LT-UHF-38_N (QFN, 38-Leads, Body 7.1x5.1mm, Pitch 0.5mm, Thermal Pad 3.15x5.15mm, IPC Medium Density)
footprint LT-UHF-38_L (QFN, 38-Leads, Body 7.1x5.1mm, Pitch 0.5mm, Thermal Pad 3.15x5.15mm, IPC High Density)
footprint LT-UHF-38_M (QFN, 38-Leads, Body 7.1x5.1mm, Pitch 0.5mm, Thermal Pad 3.15x5.15mm, IPC Low Density)
part A pins: 1 VC1 "Error Amplifier Compensation Pin. When PWM is low, VC pin floats external compensation capacitor to save state for next cycle.", 2 LED1 (in) "Non-Inverting Input of Current Sense Error Amplifier. Connect directly to LED current sense resistor terminal. Switcher will regulate this node to a voltage of 0.1• VADJ below the CAP node. Also connected to CAP nod(See Datasheet)", 3 CAP1 (in) "Inverting input of current sense error amplifier. Connect directly to other terminal of LED current sense resistor. Also connected to output filter capacitor and cathode of external Schottky rectifier. CAP greater than the (See Datasheet)", 4 CAP2 (in) "Inverting input of current sense error amplifier. Connect directly to other terminal of LED current sense resistor. Also connected to output filter capacitor and cathode of external Schottky rectifier. CAP greater than the (See Datasheet)", 5 LED2 (in) "Non-Inverting Input of Current Sense Error Amplifier. Connect directly to LED current sense resistor terminal. Switcher will regulate this node to a voltage of 0.1• VADJ below the CAP node. Also connected to CAP nod(See Datasheet)", 6 RT "Oscillator Programming Pin. Place resistor connected to GND to program oscillator frequency.", 7 REF (out) "Reference Output Pin. Connect to VADJ pin to get full-scale LED current. Connect to resistor dividers to program VADJ pins to values lower than 1.05 V. Bypass to local GND with 0.1 uF capacitor.", 8 LED3 (in) "Non-Inverting Input of Current Sense Error Amplifier. Connect directly to LED current sense resistor terminal. Switcher will regulate this node to a voltage of 0.1• VADJ below the CAP node. Also connected to CAP nod(See Datasheet)", 9 CAP3 (in) "Inverting input of current sense error amplifier. Connect directly to other terminal of LED current sense resistor. Also connected to output filter capacitor and cathode of external Schottky rectifier. CAP greater than the (See Datasheet)", 10 CAP4 (in) "Inverting input of current sense error amplifier. Connect directly to other terminal of LED current sense resistor. Also connected to output filter capacitor and cathode of external Schottky rectifier. CAP greater than the (See Datasheet)", 11 LED4 (in) "Non-Inverting Input of Current Sense Error Amplifier. Connect directly to LED current sense resistor terminal. Switcher will regulate this node to a voltage of 0.1• VADJ below the CAP node. Also connected to CAP nod(See Datasheet)", 12 VC4 "Error Amplifier Compensation Pin. When PWM is low, VC pin floats external compensation capacitor to save state for next cycle.", 13 VC3 "Error Amplifier Compensation Pin. When PWM is low, VC pin floats external compensation capacitor to save state for next cycle.", 14 VADJ4 (in) "LED Current Adjustment Pin. Sets voltage across external sense resistor between CAPn and LEDn. Connect directly to REF for full-scale threshold of 105 mV, or use signal vales between GND and REF to modulate LED current. VADJ (See Datasheet)", 15 VADJ3 (in) "LED Current Adjustment Pin. Sets voltage across external sense resistor between CAPn and LEDn. Connect directly to REF for full-scale threshold of 105 mV, or use signal vales between GND and REF to modulate LED current. VADJ (See Datasheet)", 16 PWM4 (in) "Signal low turns off the channel-disables the main switch, reduces quiescent supply current to the channel, and causes the VC pin for the channel to become high impedance.", 17 PWM3 (in) "Signal low turns off the channel-disables the main switch, reduces quiescent supply current to the channel, and causes the VC pin for the channel to become high impedance.", 18 ~{SHDN} (in) "Shutdown Pin. Higher than 1.5 V turns the device on.", 22 SW4 (power) "Switch Pin. Connect to external inductor and anode of external Schottky rectifier. Minimize area of SW trace and use a GND plane to reduce EMI. Adjacent pins of same name are internally connected.", 23 SW4 (power) "Switch Pin. Connect to external inductor and anode of external Schottky rectifier. Minimize area of SW trace and use a GND plane to reduce EMI. Adjacent pins of same name are internally connected.", 24 SW3 (power) "Switch Pin. Connect to external inductor and anode of external Schottky rectifier. Minimize area of SW trace and use a GND plane to reduce EMI. Adjacent pins of same name are internally connected.", 25 SW3 (power) "Switch Pin. Connect to external inductor and anode of external Schottky rectifier. Minimize area of SW trace and use a GND plane to reduce EMI. Adjacent pins of same name are internally connected.", 26 SW2 (power) "Switch Pin. Connect to external inductor and anode of external Schottky rectifier. Minimize area of SW trace and use a GND plane to reduce EMI. Adjacent pins of same name are internally connected.", 27 SW2 (power) "Switch Pin. Connect to external inductor and anode of external Schottky rectifier. Minimize area of SW trace and use a GND plane to reduce EMI. Adjacent pins of same name are internally connected.", 28 SW1 (power) "Switch Pin. Connect to external inductor and anode of external Schottky rectifier. Minimize area of SW trace and use a GND plane to reduce EMI. Adjacent pins of same name are internally connected.", 29 SW1 (power) "Switch Pin. Connect to external inductor and anode of external Schottky rectifier. Minimize area of SW trace and use a GND plane to reduce EMI. Adjacent pins of same name are internally connected.", 33 VIN (power) "Input Supply Pin. Must be locally bypassed.", 34 PWM2 (in) "Signal low turns off the channel-disables the main switch, reduces quiescent supply current to the channel, and causes the VC pin for the channel to become high impedance.", 35 PWM1 (in) "Signal low turns off the channel-disables the main switch, reduces quiescent supply current to the channel, and causes the VC pin for the channel to become high impedance.", 36 VADJ2 (in) "LED Current Adjustment Pin. Sets voltage across external sense resistor between CAPn and LEDn. Connect directly to REF for full-scale threshold of 105 mV, or use signal vales between GND and REF to modulate LED current. VADJ (See Datasheet)", 37 VADJ1 (in) "LED Current Adjustment Pin. Sets voltage across external sense resistor between CAPn and LEDn. Connect directly to REF for full-scale threshold of 105 mV, or use signal vales between GND and REF to modulate LED current. VADJ (See Datasheet)", 38 VC2 "Error Amplifier Compensation Pin. When PWM is low, VC pin floats external compensation capacitor to save state for next cycle.", 39 GND (power) "Signal and Power GND. Solder exposed pad directly to ground plane. The exposed pad metal of the package provides both electrical contact to ground and good thermal contact to the printed circuit board. It must be soldered to (See Datasheet)"
part B pins: 19 NC "Not Used. Connect to GND (Pin 39) for better heat dissipation.", 20 NC "Not Used. Connect to GND (Pin 39) for better heat dissipation.", 21 NC "Not Used. Connect to GND (Pin 39) for better heat dissipation.", 30 NC "Not Used. Connect to GND (Pin 39) for better heat dissipation.", 31 NC "Not Used. Connect to GND (Pin 39) for better heat dissipation.", 32 NC "Not Used. Connect to GND (Pin 39) for better heat dissipation."